# EAGLE library part RAK811-BREAKBOARD (library ipas)
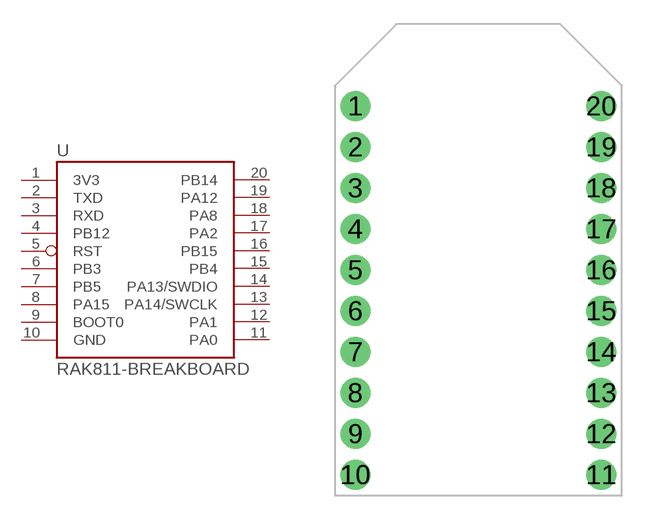
[diagram p38: symbol with the pads of RAK811-BREAKBOARD; footprint RAK811-BREAKBOARD]

Designator prefix U

## RAK811-BREAKBOARD  [RAK811-BREAKBOARD]
1  3V3  pwr
2  TXD
3  RXD
4  PB12
5  RST  in
6  PB3
7  PB5
8  PA15
9  BOOT0
10  GND  pwr
11  PA0
12  PA1
13  PA14/SWCLK
14  PA13/SWDIO
15  PB4
16  PB15
17  PA2
18  PA8
19  PA12
20  PB14

## Footprint RAK811-BREAKBOARD (pad centres in mm)
drill 1.016 pad 1.88: 1 -7.62,7.62; 2 -7.62,5.08; 3 -7.62,2.54; 4 -7.62,0; 5 -7.62,-2.54; 6 -7.62,-5.08; 7 -7.62,-7.62; 8 -7.62,-10.16; 9 -7.62,-12.7; 10 -7.62,-15.24; 11 7.62,-15.24; 12 7.62,-12.7; 13 7.62,-10.16; 14 7.62,-7.62; 15 7.62,-5.08; 16 7.62,-2.54; 17 7.62,0; 18 7.62,2.54; 19 7.62,5.08; 20 7.62,7.62